# Altium schematic symbol library 7805.SchLib: 2 symbols
Pins are listed as number, name and electrical type; pins without a type are passive.

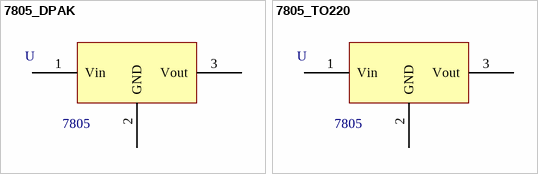
[diagram p0: symbols 7805_DPAK to 7805_TO220]

## 7805_DPAK
designator U  value 7805  (hidden comment: *)
Manufacturer Code: MC7805CD2TG; Manufacturer: ON SEMICONDUCTOR; Farnell Code: 9665013; Unit Price: 0,67 €
footprint DPAK
footprint TO220
pins: 1 Vin, 2 GND, 3 Vout

## 7805_TO220
designator U  value 7805  (hidden comment: *)
Manufacturer Code: MC7805CTG; Manufacturer: ON SEMICONDUCTOR; Farnell Code: 9666095; Unit Price: 0,53 €
footprint DPAK
footprint TO220
pins: 1 Vin, 2 GND, 3 Vout